# Altium footprint library Lattice Semiconductor Footprints.PcbLib: 129 footprints (part 9 of 10)
Each footprint in its own frame and in the unit in brackets; x right, y up, seen from the top. Pads: shape width x height; smd on the part's side, far side on the other; paste and mask are expansions set on the pad; w line width, h text height; cw(c..) or ccw(c..) is an arc to the next point about the centre after c.
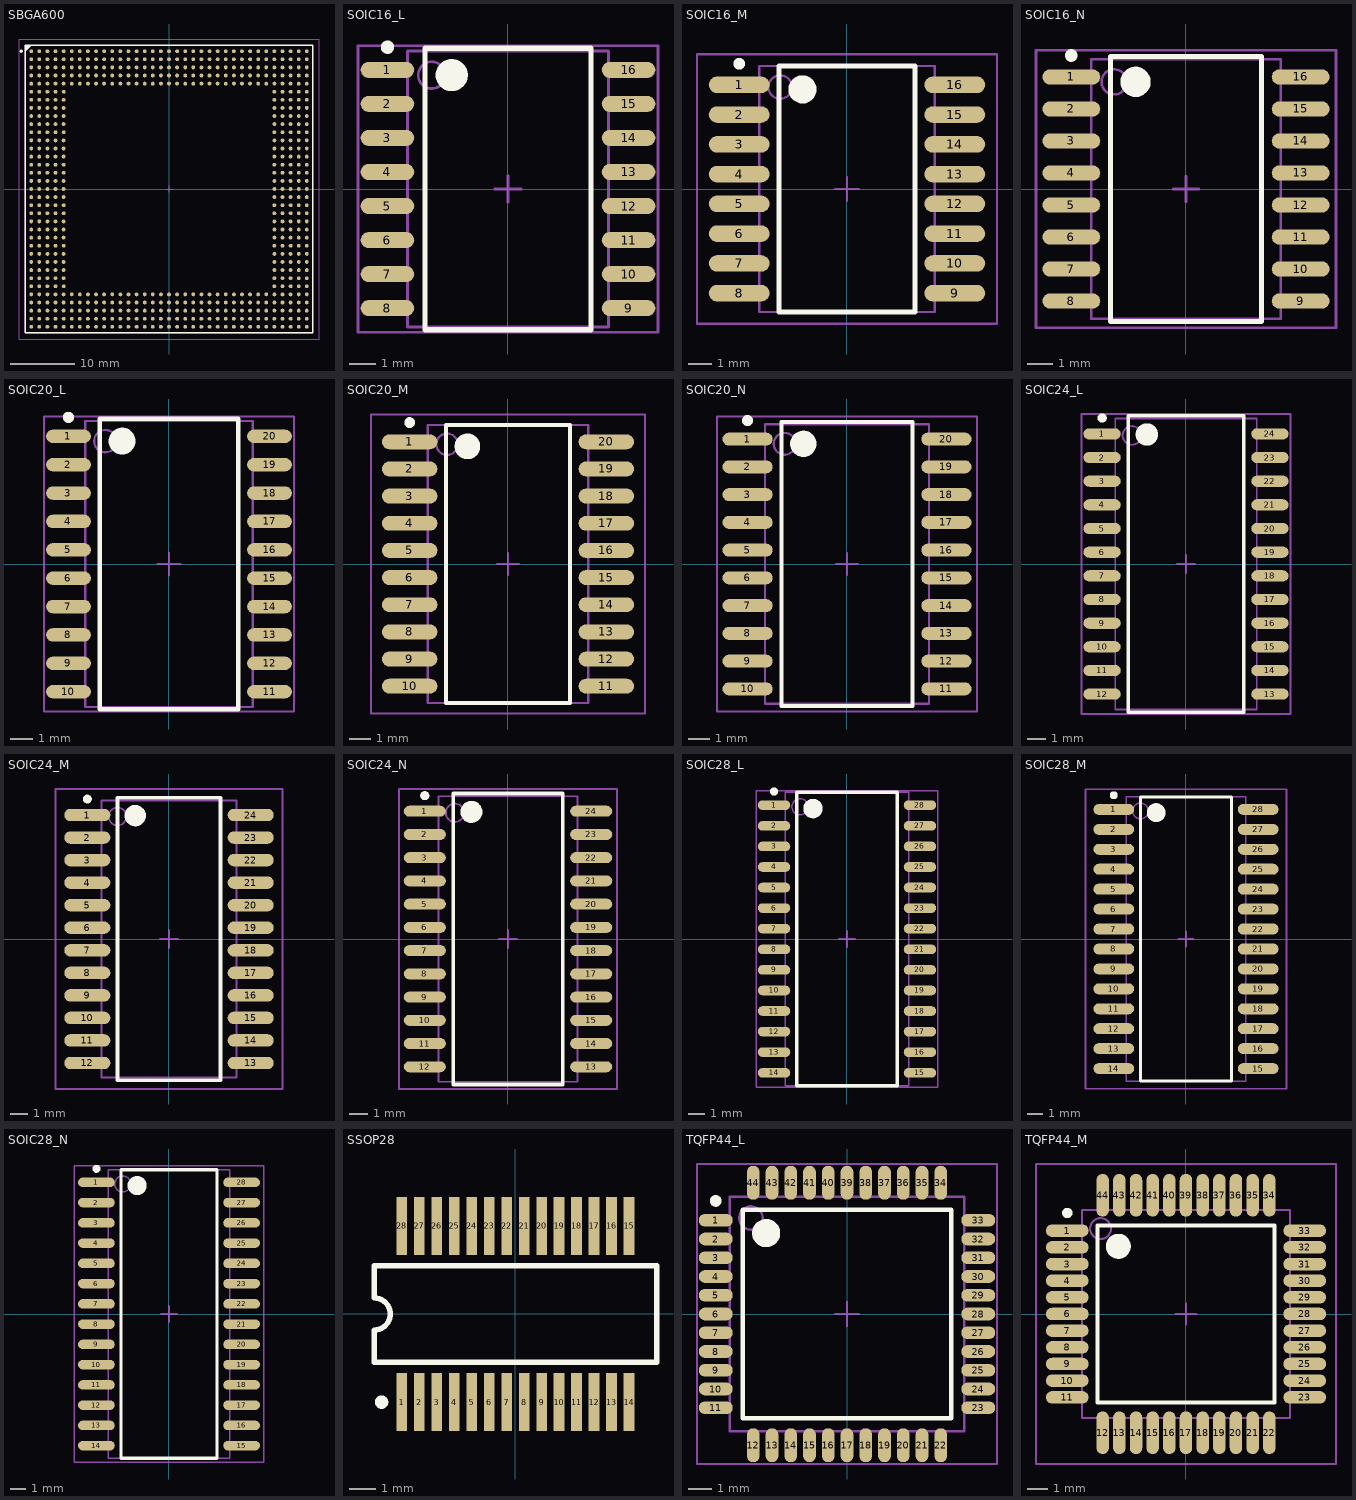
[diagram p8: the footprints below, top view; thin cyan lines are the x and y axes]

## SBGA600 [mm] "600-Ball Super Ball Grid Array (SBGA600)"
height 1.7
pads (600):
  round 0.6 smd: A1(-21.59,21.59) A2(-20.32,21.59) A3(-19.05,21.59) A4(-17.78,21.59) A5(-16.51,21.59) A6(-15.24,21.59) A7(-13.97,21.59) A8(-12.7,21.59) A9(-11.43,21.59) A10(-10.16,21.59) A11(-8.89,21.59) A12(-7.62,21.59) A13(-6.35,21.59) A14(-5.08,21.59) A15(-3.81,21.59) A16(-2.54,21.59) A17(-1.27,21.59) A18(0,21.59) A19(1.27,21.59) A20(2.54,21.59) A21(3.81,21.59) A22(5.08,21.59) A23(6.35,21.59) A24(7.62,21.59) A25(8.89,21.59) A26(10.16,21.59) A27(11.43,21.59) A28(12.7,21.59) A29(13.97,21.59) A30(15.24,21.59) A31(16.51,21.59) A32(17.78,21.59) A33(19.05,21.59) A34(20.32,21.59) A35(21.59,21.59) AA1(-21.59,-3.81) AA2(-20.32,-3.81) AA3(-19.05,-3.81) AA4(-17.78,-3.81) AA5(-16.51,-3.81) AA31(16.51,-3.81) AA32(17.78,-3.81) AA33(19.05,-3.81) AA34(20.32,-3.81) AA35(21.59,-3.81) AB1(-21.59,-5.08) AB2(-20.32,-5.08) AB3(-19.05,-5.08) AB4(-17.78,-5.08) AB5(-16.51,-5.08) AB31(16.51,-5.08) AB32(17.78,-5.08) AB33(19.05,-5.08) AB34(20.32,-5.08) AB35(21.59,-5.08) AC1(-21.59,-6.35) AC2(-20.32,-6.35) AC3(-19.05,-6.35) AC4(-17.78,-6.35) AC5(-16.51,-6.35) AC31(16.51,-6.35) AC32(17.78,-6.35) AC33(19.05,-6.35) AC34(20.32,-6.35) AC35(21.59,-6.35) AD1(-21.59,-7.62) AD2(-20.32,-7.62) AD3(-19.05,-7.62) AD4(-17.78,-7.62) AD5(-16.51,-7.62) AD31(16.51,-7.62) AD32(17.78,-7.62) AD33(19.05,-7.62) AD34(20.32,-7.62) AD35(21.59,-7.62) AE1(-21.59,-8.89) AE2(-20.32,-8.89) AE3(-19.05,-8.89) AE4(-17.78,-8.89) AE5(-16.51,-8.89) AE31(16.51,-8.89) AE32(17.78,-8.89) AE33(19.05,-8.89) AE34(20.32,-8.89) AE35(21.59,-8.89) AF1(-21.59,-10.16) AF2(-20.32,-10.16) AF3(-19.05,-10.16) AF4(-17.78,-10.16) AF5(-16.51,-10.16) AF31(16.51,-10.16) AF32(17.78,-10.16) AF33(19.05,-10.16) AF34(20.32,-10.16) AF35(21.59,-10.16) AG1(-21.59,-11.43) AG2(-20.32,-11.43) AG3(-19.05,-11.43) AG4(-17.78,-11.43) AG5(-16.51,-11.43) AG31(16.51,-11.43) AG32(17.78,-11.43) AG33(19.05,-11.43) AG34(20.32,-11.43) AG35(21.59,-11.43) AH1(-21.59,-12.7) AH2(-20.32,-12.7) AH3(-19.05,-12.7) AH4(-17.78,-12.7) AH5(-16.51,-12.7) AH31(16.51,-12.7) AH32(17.78,-12.7) AH33(19.05,-12.7) AH34(20.32,-12.7) AH35(21.59,-12.7) AJ1(-21.59,-13.97) AJ2(-20.32,-13.97) AJ3(-19.05,-13.97) AJ4(-17.78,-13.97) AJ5(-16.51,-13.97) AJ31(16.51,-13.97) AJ32(17.78,-13.97) AJ33(19.05,-13.97) AJ34(20.32,-13.97) AJ35(21.59,-13.97) AK1(-21.59,-15.24) AK2(-20.32,-15.24) AK3(-19.05,-15.24) AK4(-17.78,-15.24) AK5(-16.51,-15.24) AK31(16.51,-15.24) AK32(17.78,-15.24) AK33(19.05,-15.24) AK34(20.32,-15.24) AK35(21.59,-15.24) AL1(-21.59,-16.51) AL2(-20.32,-16.51) AL3(-19.05,-16.51) AL4(-17.78,-16.51) AL5(-16.51,-16.51) AL6(-15.24,-16.51) AL7(-13.97,-16.51) AL8(-12.7,-16.51) AL9(-11.43,-16.51) AL10(-10.16,-16.51) AL11(-8.89,-16.51) AL12(-7.62,-16.51) AL13(-6.35,-16.51) AL14(-5.08,-16.51) AL15(-3.81,-16.51) AL16(-2.54,-16.51) AL17(-1.27,-16.51) AL18(0,-16.51) AL19(1.27,-16.51) AL20(2.54,-16.51) AL21(3.81,-16.51) AL22(5.08,-16.51) AL23(6.35,-16.51) AL24(7.62,-16.51) AL25(8.89,-16.51) AL26(10.16,-16.51) AL27(11.43,-16.51) AL28(12.7,-16.51) AL29(13.97,-16.51) AL30(15.24,-16.51) AL31(16.51,-16.51) AL32(17.78,-16.51) AL33(19.05,-16.51) AL34(20.32,-16.51) AL35(21.59,-16.51) AM1(-21.59,-17.78) AM2(-20.32,-17.78) AM3(-19.05,-17.78) AM4(-17.78,-17.78) AM5(-16.51,-17.78) AM6(-15.24,-17.78) AM7(-13.97,-17.78) AM8(-12.7,-17.78) AM9(-11.43,-17.78) AM10(-10.16,-17.78) AM11(-8.89,-17.78) AM12(-7.62,-17.78) AM13(-6.35,-17.78) AM14(-5.08,-17.78) AM15(-3.81,-17.78) AM16(-2.54,-17.78) AM17(-1.27,-17.78) AM18(0,-17.78) AM19(1.27,-17.78) AM20(2.54,-17.78) AM21(3.81,-17.78) AM22(5.08,-17.78) AM23(6.35,-17.78) AM24(7.62,-17.78) AM25(8.89,-17.78) AM26(10.16,-17.78) AM27(11.43,-17.78) AM28(12.7,-17.78) AM29(13.97,-17.78) AM30(15.24,-17.78) AM31(16.51,-17.78) AM32(17.78,-17.78) AM33(19.05,-17.78) AM34(20.32,-17.78) AM35(21.59,-17.78) AN1(-21.59,-19.05) AN2(-20.32,-19.05) AN3(-19.05,-19.05) AN4(-17.78,-19.05) AN5(-16.51,-19.05) AN6(-15.24,-19.05) AN7(-13.97,-19.05) AN8(-12.7,-19.05) AN9(-11.43,-19.05) AN10(-10.16,-19.05) AN11(-8.89,-19.05) AN12(-7.62,-19.05) AN13(-6.35,-19.05) AN14(-5.08,-19.05) AN15(-3.81,-19.05) AN16(-2.54,-19.05) AN17(-1.27,-19.05) AN18(0,-19.05) AN19(1.27,-19.05) AN20(2.54,-19.05) AN21(3.81,-19.05) AN22(5.08,-19.05) AN23(6.35,-19.05) AN24(7.62,-19.05) AN25(8.89,-19.05) AN26(10.16,-19.05) AN27(11.43,-19.05) AN28(12.7,-19.05) AN29(13.97,-19.05) AN30(15.24,-19.05) AN31(16.51,-19.05) AN32(17.78,-19.05) AN33(19.05,-19.05) AN34(20.32,-19.05) AN35(21.59,-19.05) AP1(-21.59,-20.32) AP2(-20.32,-20.32) AP3(-19.05,-20.32) AP4(-17.78,-20.32) AP5(-16.51,-20.32) AP6(-15.24,-20.32) AP7(-13.97,-20.32) AP8(-12.7,-20.32) AP9(-11.43,-20.32) AP10(-10.16,-20.32) AP11(-8.89,-20.32) AP12(-7.62,-20.32) AP13(-6.35,-20.32) AP14(-5.08,-20.32) AP15(-3.81,-20.32) AP16(-2.54,-20.32) AP17(-1.27,-20.32) AP18(0,-20.32) AP19(1.27,-20.32) AP20(2.54,-20.32) AP21(3.81,-20.32) AP22(5.08,-20.32) AP23(6.35,-20.32) AP24(7.62,-20.32) AP25(8.89,-20.32) AP26(10.16,-20.32) AP27(11.43,-20.32) AP28(12.7,-20.32) AP29(13.97,-20.32) AP30(15.24,-20.32) AP31(16.51,-20.32) AP32(17.78,-20.32) AP33(19.05,-20.32) AP34(20.32,-20.32) AP35(21.59,-20.32) AR1(-21.59,-21.59) AR2(-20.32,-21.59) AR3(-19.05,-21.59) AR4(-17.78,-21.59) AR5(-16.51,-21.59) AR6(-15.24,-21.59) AR7(-13.97,-21.59) AR8(-12.7,-21.59) AR9(-11.43,-21.59) AR10(-10.16,-21.59) AR11(-8.89,-21.59) AR12(-7.62,-21.59) AR13(-6.35,-21.59) AR14(-5.08,-21.59) AR15(-3.81,-21.59) AR16(-2.54,-21.59) AR17(-1.27,-21.59) AR18(0,-21.59) AR19(1.27,-21.59) AR20(2.54,-21.59) AR21(3.81,-21.59) AR22(5.08,-21.59) AR23(6.35,-21.59) AR24(7.62,-21.59) AR25(8.89,-21.59) AR26(10.16,-21.59) AR27(11.43,-21.59) AR28(12.7,-21.59) AR29(13.97,-21.59) AR30(15.24,-21.59) AR31(16.51,-21.59) AR32(17.78,-21.59) AR33(19.05,-21.59) AR34(20.32,-21.59) AR35(21.59,-21.59) B1(-21.59,20.32) B2(-20.32,20.32) B3(-19.05,20.32) B4(-17.78,20.32) B5(-16.51,20.32) B6(-15.24,20.32) B7(-13.97,20.32) B8(-12.7,20.32) B9(-11.43,20.32) B10(-10.16,20.32) B11(-8.89,20.32) B12(-7.62,20.32) B13(-6.35,20.32) B14(-5.08,20.32) B15(-3.81,20.32) B16(-2.54,20.32) B17(-1.27,20.32) B18(0,20.32) B19(1.27,20.32) B20(2.54,20.32) B21(3.81,20.32) B22(5.08,20.32) B23(6.35,20.32) B24(7.62,20.32) B25(8.89,20.32) B26(10.16,20.32) B27(11.43,20.32) B28(12.7,20.32) B29(13.97,20.32) B30(15.24,20.32) B31(16.51,20.32) B32(17.78,20.32) B33(19.05,20.32) B34(20.32,20.32) B35(21.59,20.32) C1(-21.59,19.05) C2(-20.32,19.05) C3(-19.05,19.05) C4(-17.78,19.05) C5(-16.51,19.05) C6(-15.24,19.05) C7(-13.97,19.05) C8(-12.7,19.05) C9(-11.43,19.05) C10(-10.16,19.05) C11(-8.89,19.05) C12(-7.62,19.05) C13(-6.35,19.05) C14(-5.08,19.05) C15(-3.81,19.05) C16(-2.54,19.05) C17(-1.27,19.05) C18(0,19.05) C19(1.27,19.05) C20(2.54,19.05) C21(3.81,19.05) C22(5.08,19.05) C23(6.35,19.05) C24(7.62,19.05) C25(8.89,19.05) C26(10.16,19.05) C27(11.43,19.05) C28(12.7,19.05) C29(13.97,19.05) C30(15.24,19.05) C31(16.51,19.05) C32(17.78,19.05) C33(19.05,19.05) C34(20.32,19.05) C35(21.59,19.05) D1(-21.59,17.78) D2(-20.32,17.78) D3(-19.05,17.78) D4(-17.78,17.78) D5(-16.51,17.78) D6(-15.24,17.78) D7(-13.97,17.78) D8(-12.7,17.78) D9(-11.43,17.78) D10(-10.16,17.78) D11(-8.89,17.78) D12(-7.62,17.78) D13(-6.35,17.78) D14(-5.08,17.78) D15(-3.81,17.78) D16(-2.54,17.78) D17(-1.27,17.78) D18(0,17.78) D19(1.27,17.78) D20(2.54,17.78) D21(3.81,17.78) D22(5.08,17.78) D23(6.35,17.78) D24(7.62,17.78) D25(8.89,17.78) D26(10.16,17.78) D27(11.43,17.78) D28(12.7,17.78) D29(13.97,17.78) D30(15.24,17.78) D31(16.51,17.78) D32(17.78,17.78) D33(19.05,17.78) D34(20.32,17.78) D35(21.59,17.78) E1(-21.59,16.51) E2(-20.32,16.51) E3(-19.05,16.51) E4(-17.78,16.51) E5(-16.51,16.51) E6(-15.24,16.51) E7(-13.97,16.51) E8(-12.7,16.51) E9(-11.43,16.51) E10(-10.16,16.51) E11(-8.89,16.51) E12(-7.62,16.51) E13(-6.35,16.51) E14(-5.08,16.51) E15(-3.81,16.51) E16(-2.54,16.51) E17(-1.27,16.51) E18(0,16.51) E19(1.27,16.51) E20(2.54,16.51) E21(3.81,16.51) E22(5.08,16.51) E23(6.35,16.51) E24(7.62,16.51) E25(8.89,16.51) E26(10.16,16.51) E27(11.43,16.51) E28(12.7,16.51) E29(13.97,16.51) E30(15.24,16.51) E31(16.51,16.51) E32(17.78,16.51) E33(19.05,16.51) E34(20.32,16.51) E35(21.59,16.51) F1(-21.59,15.24) F2(-20.32,15.24) F3(-19.05,15.24) F4(-17.78,15.24) F5(-16.51,15.24) F31(16.51,15.24) F32(17.78,15.24) F33(19.05,15.24) F34(20.32,15.24) F35(21.59,15.24) G1(-21.59,13.97) G2(-20.32,13.97) G3(-19.05,13.97) G4(-17.78,13.97) G5(-16.51,13.97) G31(16.51,13.97) G32(17.78,13.97) G33(19.05,13.97) G34(20.32,13.97) G35(21.59,13.97) H1(-21.59,12.7) H2(-20.32,12.7) H3(-19.05,12.7) H4(-17.78,12.7) H5(-16.51,12.7) H31(16.51,12.7) H32(17.78,12.7) H33(19.05,12.7) H34(20.32,12.7) H35(21.59,12.7) J1(-21.59,11.43) J2(-20.32,11.43) J3(-19.05,11.43) J4(-17.78,11.43) J5(-16.51,11.43) J31(16.51,11.43) J32(17.78,11.43) J33(19.05,11.43) J34(20.32,11.43) J35(21.59,11.43) K1(-21.59,10.16) K2(-20.32,10.16) K3(-19.05,10.16) K4(-17.78,10.16) K5(-16.51,10.16) K31(16.51,10.16) K32(17.78,10.16) K33(19.05,10.16) K34(20.32,10.16) K35(21.59,10.16) L1(-21.59,8.89) L2(-20.32,8.89) L3(-19.05,8.89) L4(-17.78,8.89) L5(-16.51,8.89) L31(16.51,8.89) L32(17.78,8.89) L33(19.05,8.89) L34(20.32,8.89) L35(21.59,8.89) M1(-21.59,7.62) M2(-20.32,7.62) M3(-19.05,7.62) M4(-17.78,7.62) M5(-16.51,7.62) M31(16.51,7.62) M32(17.78,7.62) M33(19.05,7.62) M34(20.32,7.62) M35(21.59,7.62) N1(-21.59,6.35) N2(-20.32,6.35) N3(-19.05,6.35) N4(-17.78,6.35) N5(-16.51,6.35) N31(16.51,6.35) N32(17.78,6.35) N33(19.05,6.35) N34(20.32,6.35) N35(21.59,6.35) P1(-21.59,5.08) P2(-20.32,5.08) P3(-19.05,5.08) P4(-17.78,5.08) P5(-16.51,5.08) P31(16.51,5.08) P32(17.78,5.08) P33(19.05,5.08) P34(20.32,5.08) P35(21.59,5.08) R1(-21.59,3.81) R2(-20.32,3.81) R3(-19.05,3.81) R4(-17.78,3.81) R5(-16.51,3.81) R31(16.51,3.81) R32(17.78,3.81) R33(19.05,3.81) R34(20.32,3.81) R35(21.59,3.81) T1(-21.59,2.54) T2(-20.32,2.54) T3(-19.05,2.54) T4(-17.78,2.54) T5(-16.51,2.54) T31(16.51,2.54) T32(17.78,2.54) T33(19.05,2.54) T34(20.32,2.54) T35(21.59,2.54) U1(-21.59,1.27) U2(-20.32,1.27) U3(-19.05,1.27) U4(-17.78,1.27) U5(-16.51,1.27) U31(16.51,1.27) U32(17.78,1.27) U33(19.05,1.27) U34(20.32,1.27) U35(21.59,1.27) V1(-21.59,0) V2(-20.32,0) V3(-19.05,0) V4(-17.78,0) V5(-16.51,0) V31(16.51,0) V32(17.78,0) V33(19.05,0) V34(20.32,0) V35(21.59,0) W1(-21.59,-1.27) W2(-20.32,-1.27) W3(-19.05,-1.27) W4(-17.78,-1.27) W5(-16.51,-1.27) W31(16.51,-1.27) W32(17.78,-1.27) W33(19.05,-1.27) W34(20.32,-1.27) W35(21.59,-1.27) Y1(-21.59,-2.54) Y2(-20.32,-2.54) Y3(-19.05,-2.54) Y4(-17.78,-2.54) Y5(-16.51,-2.54) Y31(16.51,-2.54) Y32(17.78,-2.54) Y33(19.05,-2.54) Y34(20.32,-2.54) Y35(21.59,-2.54)
Top Overlay:
  circle w0.25: c-23.15,21.59 r0.125
  region: -21.67,22.5 -22.5,21.67 -22.5,22.5
  lines w0.2: -22.5,21.67 -21.67,22.5 ; -22.5,-22.5 -22.5,22.5 22.5,22.5 22.5,-22.5 -22.5,-22.5
Mechanical 13:
  lines w0.1: -22.5,-22.5 -22.5,22.5 22.5,22.5 22.5,-22.5 -22.5,-22.5
Mechanical 15:
  lines w0.1: -0.5,0 0.5,0 ; 0,-0.5 0,0.5 ; -23.5,-23.5 -23.5,23.5 23.5,23.5 23.5,-23.5 -23.5,-23.5
3D body: height 1.7, standoff 0, extent -22.5,-22.5 22.5,22.5

## SOIC16_L [mm] "16-Pin Small Outline Integrated Circuit 1.27 mm Pitch, IPC High Density"
height 2.65
pads (16):
  oval 2x0.6 smd: 1(-4.5,4.445) 2(-4.5,3.175) 3(-4.5,1.905) 4(-4.5,0.635) 5(-4.5,-0.635) 6(-4.5,-1.905) 7(-4.5,-3.175) 8(-4.5,-4.445) 9(4.5,-4.445) 10(4.5,-3.175) 11(4.5,-1.905) 12(4.5,-0.635) 13(4.5,0.635) 14(4.5,1.905) 15(4.5,3.175) 16(4.5,4.445)
Top Overlay:
  circle w0.25: c-4.5,5.295 r0.125
  circle w0.6: c-2.1,4.25 r0.3
  lines w0.2: -3.1,-5.25 -3.1,5.25 3.1,5.25 3.1,-5.25 -3.1,-5.25
Mechanical 13:
  circle w0.1: c-2.85,4.25 r0.5
  lines w0.1: -3.75,-5.15 -3.75,5.15 3.75,5.15 3.75,-5.15 -3.75,-5.15
Mechanical 15:
  lines w0.1: -0.5,0 0.5,0 ; 0,-0.5 0,0.5 ; -5.6,-5.35 -5.6,5.35 5.6,5.35 5.6,-5.35 -5.6,-5.35
3D body: height 2.65, standoff 0, extent -3.75,-5.15 3.75,5.15

## SOIC16_M [mm] "16-Pin Small Outline Integrated Circuit 1.27 mm Pitch, IPC Low Density"
height 2.65
pads (16):
  oval 2.6x0.7 smd: 1(-4.6,4.445) 2(-4.6,3.175) 3(-4.6,1.905) 4(-4.6,0.635) 5(-4.6,-0.635) 6(-4.6,-1.905) 7(-4.6,-3.175) 8(-4.6,-4.445) 9(4.6,-4.445) 10(4.6,-3.175) 11(4.6,-1.905) 12(4.6,-0.635) 13(4.6,0.635) 14(4.6,1.905) 15(4.6,3.175) 16(4.6,4.445)
Top Overlay:
  circle w0.25: c-4.6,5.345 r0.125
  circle w0.6: c-1.9,4.25 r0.3
  lines w0.2: -2.9,-5.25 -2.9,5.25 2.9,5.25 2.9,-5.25 -2.9,-5.25
Mechanical 13:
  circle w0.1: c-2.85,4.35 r0.5
  lines w0.1: -3.75,-5.25 -3.75,5.25 3.75,5.25 3.75,-5.25 -3.75,-5.25
Mechanical 15:
  lines w0.1: -0.5,0 0.5,0 ; 0,-0.5 0,0.5 ; -6.4,-5.75 -6.4,5.75 6.4,5.75 6.4,-5.75 -6.4,-5.75
3D body: height 2.65, standoff 0, extent -3.75,-5.25 3.75,5.25

## SOIC16_N [mm] "16-Pin Small Outline Integrated Circuit 1.27 mm Pitch, IPC Medium Density"
height 2.65
pads (16):
  oval 2.3x0.6 smd: 1(-4.55,4.445) 2(-4.55,3.175) 3(-4.55,1.905) 4(-4.55,0.635) 5(-4.55,-0.635) 6(-4.55,-1.905) 7(-4.55,-3.175) 8(-4.55,-4.445) 9(4.55,-4.445) 10(4.55,-3.175) 11(4.55,-1.905) 12(4.55,-0.635) 13(4.55,0.635) 14(4.55,1.905) 15(4.55,3.175) 16(4.55,4.445)
Top Overlay:
  circle w0.25: c-4.55,5.295 r0.125
  circle w0.6: c-2,4.25 r0.3
  lines w0.2: -3,-5.25 -3,5.25 3,5.25 3,-5.25 -3,-5.25
Mechanical 13:
  circle w0.1: c-2.85,4.25 r0.5
  lines w0.1: -3.75,-5.15 -3.75,5.15 3.75,5.15 3.75,-5.15 -3.75,-5.15
Mechanical 15:
  lines w0.1: -0.5,0 0.5,0 ; 0,-0.5 0,0.5 ; -5.95,-5.5 -5.95,5.5 5.95,5.5 5.95,-5.5 -5.95,-5.5
3D body: height 2.65, standoff 0, extent -3.75,-5.15 3.75,5.15

## SOIC20_L [mm] "20-Pin Small Outline Integrated Circuit 1.27 mm Pitch, IPC High Density"
height 2.65
pads (20):
  oval 2x0.6 smd: 1(-4.5,5.715) 2(-4.5,4.445) 3(-4.5,3.175) 4(-4.5,1.905) 5(-4.5,0.635) 6(-4.5,-0.635) 7(-4.5,-1.905) 8(-4.5,-3.175) 9(-4.5,-4.445) 10(-4.5,-5.715) 11(4.5,-5.715) 12(4.5,-4.445) 13(4.5,-3.175) 14(4.5,-1.905) 15(4.5,-0.635) 16(4.5,0.635) 17(4.5,1.905) 18(4.5,3.175) 19(4.5,4.445) 20(4.5,5.715)
Top Overlay:
  circle w0.25: c-4.5,6.565 r0.125
  circle w0.6: c-2.1,5.5 r0.3
  lines w0.2: -3.1,-6.5 -3.1,6.5 3.1,6.5 3.1,-6.5 -3.1,-6.5
Mechanical 13:
  circle w0.1: c-2.85,5.5 r0.5
  lines w0.1: -3.75,-6.4 -3.75,6.4 3.75,6.4 3.75,-6.4 -3.75,-6.4
Mechanical 15:
  lines w0.1: -0.5,0 0.5,0 ; 0,-0.5 0,0.5 ; -5.6,-6.6 -5.6,6.6 5.6,6.6 5.6,-6.6 -5.6,-6.6
3D body: height 2.65, standoff 0, extent -3.75,-6.4 3.75,6.4

## SOIC20_M [mm] "20-Pin Small Outline Integrated Circuit 1.27 mm Pitch, IPC Low Density"
height 2.65
pads (20):
  oval 2.6x0.7 smd: 1(-4.6,5.715) 2(-4.6,4.445) 3(-4.6,3.175) 4(-4.6,1.905) 5(-4.6,0.635) 6(-4.6,-0.635) 7(-4.6,-1.905) 8(-4.6,-3.175) 9(-4.6,-4.445) 10(-4.6,-5.715) 11(4.6,-5.715) 12(4.6,-4.445) 13(4.6,-3.175) 14(4.6,-1.905) 15(4.6,-0.635) 16(4.6,0.635) 17(4.6,1.905) 18(4.6,3.175) 19(4.6,4.445) 20(4.6,5.715)
Top Overlay:
  circle w0.25: c-4.6,6.615 r0.125
  circle w0.6: c-1.9,5.5 r0.3
  lines w0.2: -2.9,-6.5 -2.9,6.5 2.9,6.5 2.9,-6.5 -2.9,-6.5
Mechanical 13:
  circle w0.1: c-2.85,5.6 r0.5
  lines w0.1: -3.75,-6.5 -3.75,6.5 3.75,6.5 3.75,-6.5 -3.75,-6.5
Mechanical 15:
  lines w0.1: -0.5,0 0.5,0 ; 0,-0.5 0,0.5 ; -6.4,-7 -6.4,7 6.4,7 6.4,-7 -6.4,-7
3D body: height 2.65, standoff 0, extent -3.75,-6.5 3.75,6.5

## SOIC20_N [mm] "20-Pin Small Outline Integrated Circuit 1.27 mm Pitch, IPC Medium Density"
height 2.65
pads (20):
  oval 2.3x0.6 smd: 1(-4.55,5.715) 2(-4.55,4.445) 3(-4.55,3.175) 4(-4.55,1.905) 5(-4.55,0.635) 6(-4.55,-0.635) 7(-4.55,-1.905) 8(-4.55,-3.175) 9(-4.55,-4.445) 10(-4.55,-5.715) 11(4.55,-5.715) 12(4.55,-4.445) 13(4.55,-3.175) 14(4.55,-1.905) 15(4.55,-0.635) 16(4.55,0.635) 17(4.55,1.905) 18(4.55,3.175) 19(4.55,4.445) 20(4.55,5.715)
Top Overlay:
  circle w0.25: c-4.55,6.565 r0.125
  circle w0.6: c-2,5.5 r0.3
  lines w0.2: -3,-6.5 -3,6.5 3,6.5 3,-6.5 -3,-6.5
Mechanical 13:
  circle w0.1: c-2.85,5.5 r0.5
  lines w0.1: -3.75,-6.4 -3.75,6.4 3.75,6.4 3.75,-6.4 -3.75,-6.4
Mechanical 15:
  lines w0.1: -0.5,0 0.5,0 ; 0,-0.5 0,0.5 ; -5.95,-6.75 -5.95,6.75 5.95,6.75 5.95,-6.75 -5.95,-6.75
3D body: height 2.65, standoff 0, extent -3.75,-6.4 3.75,6.4

## SOIC24_L [mm] "24-Pin Small Outline Integrated Circuit 1.27 mm Pitch, IPC High Density"
height 2.65
pads (24):
  oval 2x0.6 smd: 1(-4.5,6.985) 2(-4.5,5.715) 3(-4.5,4.445) 4(-4.5,3.175) 5(-4.5,1.905) 6(-4.5,0.635) 7(-4.5,-0.635) 8(-4.5,-1.905) 9(-4.5,-3.175) 10(-4.5,-4.445) 11(-4.5,-5.715) 12(-4.5,-6.985) 13(4.5,-6.985) 14(4.5,-5.715) 15(4.5,-4.445) 16(4.5,-3.175) 17(4.5,-1.905) 18(4.5,-0.635) 19(4.5,0.635) 20(4.5,1.905) 21(4.5,3.175) 22(4.5,4.445) 23(4.5,5.715) 24(4.5,6.985)
Top Overlay:
  circle w0.25: c-4.5,7.835 r0.125
  circle w0.6: c-2.1,6.95 r0.3
  lines w0.2: -3.1,-7.95 -3.1,7.95 3.1,7.95 3.1,-7.95 -3.1,-7.95
Mechanical 13:
  circle w0.1: c-2.9,6.9 r0.5
  lines w0.1: -3.8,-7.8 -3.8,7.8 3.8,7.8 3.8,-7.8 -3.8,-7.8
Mechanical 15:
  lines w0.1: -0.5,0 0.5,0 ; 0,-0.5 0,0.5 ; -5.6,-8.05 -5.6,8.05 5.6,8.05 5.6,-8.05 -5.6,-8.05
3D body: height 2.65, standoff 0, extent -3.8,-7.8 3.8,7.8

## SOIC24_M [mm] "24-Pin Small Outline Integrated Circuit 1.27 mm Pitch, IPC Low Density"
height 2.65
pads (24):
  oval 2.6x0.7 smd: 1(-4.6,6.985) 2(-4.6,5.715) 3(-4.6,4.445) 4(-4.6,3.175) 5(-4.6,1.905) 6(-4.6,0.635) 7(-4.6,-0.635) 8(-4.6,-1.905) 9(-4.6,-3.175) 10(-4.6,-4.445) 11(-4.6,-5.715) 12(-4.6,-6.985) 13(4.6,-6.985) 14(4.6,-5.715) 15(4.6,-4.445) 16(4.6,-3.175) 17(4.6,-1.905) 18(4.6,-0.635) 19(4.6,0.635) 20(4.6,1.905) 21(4.6,3.175) 22(4.6,4.445) 23(4.6,5.715) 24(4.6,6.985)
Top Overlay:
  circle w0.25: c-4.6,7.885 r0.125
  circle w0.6: c-1.9,6.95 r0.3
  lines w0.2: -2.9,-7.95 -2.9,7.95 2.9,7.95 2.9,-7.95 -2.9,-7.95
Mechanical 13:
  circle w0.1: c-2.9,6.9 r0.5
  lines w0.1: -3.8,-7.8 -3.8,7.8 3.8,7.8 3.8,-7.8 -3.8,-7.8
Mechanical 15:
  lines w0.1: -0.5,0 0.5,0 ; 0,-0.5 0,0.5 ; -6.4,-8.45 -6.4,8.45 6.4,8.45 6.4,-8.45 -6.4,-8.45
3D body: height 2.65, standoff 0, extent -3.8,-7.8 3.8,7.8

## SOIC24_N [mm] "24-Pin Small Outline Integrated Circuit 1.27 mm Pitch, IPC Medium Density"
height 2.65
pads (24):
  oval 2.3x0.6 smd: 1(-4.55,6.985) 2(-4.55,5.715) 3(-4.55,4.445) 4(-4.55,3.175) 5(-4.55,1.905) 6(-4.55,0.635) 7(-4.55,-0.635) 8(-4.55,-1.905) 9(-4.55,-3.175) 10(-4.55,-4.445) 11(-4.55,-5.715) 12(-4.55,-6.985) 13(4.55,-6.985) 14(4.55,-5.715) 15(4.55,-4.445) 16(4.55,-3.175) 17(4.55,-1.905) 18(4.55,-0.635) 19(4.55,0.635) 20(4.55,1.905) 21(4.55,3.175) 22(4.55,4.445) 23(4.55,5.715) 24(4.55,6.985)
Top Overlay:
  circle w0.25: c-4.55,7.835 r0.125
  circle w0.6: c-2,6.95 r0.3
  lines w0.2: -3,-7.95 -3,7.95 3,7.95 3,-7.95 -3,-7.95
Mechanical 13:
  circle w0.1: c-2.9,6.9 r0.5
  lines w0.1: -3.8,-7.8 -3.8,7.8 3.8,7.8 3.8,-7.8 -3.8,-7.8
Mechanical 15:
  lines w0.1: -0.5,0 0.5,0 ; 0,-0.5 0,0.5 ; -5.95,-8.2 -5.95,8.2 5.95,8.2 5.95,-8.2 -5.95,-8.2
3D body: height 2.65, standoff 0, extent -3.8,-7.8 3.8,7.8

## SOIC28_L [mm] "28-Pin Small Outline Integrated Circuit 1.27 mm Pitch, IPC High Density"
height 2.65
pads (28):
  oval 2x0.6 smd: 1(-4.5,8.255) 2(-4.5,6.985) 3(-4.5,5.715) 4(-4.5,4.445) 5(-4.5,3.175) 6(-4.5,1.905) 7(-4.5,0.635) 8(-4.5,-0.635) 9(-4.5,-1.905) 10(-4.5,-3.175) 11(-4.5,-4.445) 12(-4.5,-5.715) 13(-4.5,-6.985) 14(-4.5,-8.255) 15(4.5,-8.255) 16(4.5,-6.985) 17(4.5,-5.715) 18(4.5,-4.445) 19(4.5,-3.175) 20(4.5,-1.905) 21(4.5,-0.635) 22(4.5,0.635) 23(4.5,1.905) 24(4.5,3.175) 25(4.5,4.445) 26(4.5,5.715) 27(4.5,6.985) 28(4.5,8.255)
Top Overlay:
  circle w0.25: c-4.5,9.105 r0.125
  circle w0.6: c-2.1,8.05 r0.3
  lines w0.2: -3.1,-9.05 -3.1,9.05 3.1,9.05 3.1,-9.05 -3.1,-9.05
Mechanical 13:
  circle w0.1: c-2.9,8.155 r0.5
  lines w0.1: -3.8,-9.055 -3.8,9.055 3.8,9.055 3.8,-9.055 -3.8,-9.055
Mechanical 15:
  lines w0.1: -0.5,0 0.5,0 ; 0,-0.5 0,0.5 ; -5.6,-9.15 -5.6,9.15 5.6,9.15 5.6,-9.15 -5.6,-9.15
3D body: height 2.65, standoff 0, extent -3.8,-9.055 3.8,9.055

## SOIC28_M [mm] "28-Pin Small Outline Integrated Circuit 1.27 mm Pitch, IPC Low Density"
height 2.65
pads (28):
  oval 2.6x0.7 smd: 1(-4.6,8.255) 2(-4.6,6.985) 3(-4.6,5.715) 4(-4.6,4.445) 5(-4.6,3.175) 6(-4.6,1.905) 7(-4.6,0.635) 8(-4.6,-0.635) 9(-4.6,-1.905) 10(-4.6,-3.175) 11(-4.6,-4.445) 12(-4.6,-5.715) 13(-4.6,-6.985) 14(-4.6,-8.255) 15(4.6,-8.255) 16(4.6,-6.985) 17(4.6,-5.715) 18(4.6,-4.445) 19(4.6,-3.175) 20(4.6,-1.905) 21(4.6,-0.635) 22(4.6,0.635) 23(4.6,1.905) 24(4.6,3.175) 25(4.6,4.445) 26(4.6,5.715) 27(4.6,6.985) 28(4.6,8.255)
Top Overlay:
  circle w0.25: c-4.6,9.155 r0.125
  circle w0.6: c-1.9,8.05 r0.3
  lines w0.2: -2.9,-9.05 -2.9,9.05 2.9,9.05 2.9,-9.05 -2.9,-9.05
Mechanical 13:
  circle w0.1: c-2.9,8.155 r0.5
  lines w0.1: -3.8,-9.055 -3.8,9.055 3.8,9.055 3.8,-9.055 -3.8,-9.055
Mechanical 15:
  lines w0.1: -0.5,0 0.5,0 ; 0,-0.5 0,0.5 ; -6.4,-9.55 -6.4,9.55 6.4,9.55 6.4,-9.55 -6.4,-9.55
3D body: height 2.65, standoff 0, extent -3.8,-9.055 3.8,9.055

## SOIC28_N [mm] "28-Pin Small Outline Integrated Circuit 1.27 mm Pitch, IPC Medium Density"
height 2.65
pads (28):
  oval 2.3x0.6 smd: 1(-4.55,8.255) 2(-4.55,6.985) 3(-4.55,5.715) 4(-4.55,4.445) 5(-4.55,3.175) 6(-4.55,1.905) 7(-4.55,0.635) 8(-4.55,-0.635) 9(-4.55,-1.905) 10(-4.55,-3.175) 11(-4.55,-4.445) 12(-4.55,-5.715) 13(-4.55,-6.985) 14(-4.55,-8.255) 15(4.55,-8.255) 16(4.55,-6.985) 17(4.55,-5.715) 18(4.55,-4.445) 19(4.55,-3.175) 20(4.55,-1.905) 21(4.55,-0.635) 22(4.55,0.635) 23(4.55,1.905) 24(4.55,3.175) 25(4.55,4.445) 26(4.55,5.715) 27(4.55,6.985) 28(4.55,8.255)
Top Overlay:
  circle w0.25: c-4.55,9.105 r0.125
  circle w0.6: c-2,8.05 r0.3
  lines w0.2: -3,-9.05 -3,9.05 3,9.05 3,-9.05 -3,-9.05
Mechanical 13:
  circle w0.1: c-2.9,8.155 r0.5
  lines w0.1: -3.8,-9.055 -3.8,9.055 3.8,9.055 3.8,-9.055 -3.8,-9.055
Mechanical 15:
  lines w0.1: -0.5,0 0.5,0 ; 0,-0.5 0,0.5 ; -5.95,-9.3 -5.95,9.3 5.95,9.3 5.95,-9.3 -5.95,-9.3
3D body: height 2.65, standoff 0, extent -3.8,-9.055 3.8,9.055

## SSOP28 [mm] "SSOP; 28 Leads; Body Width 5.3 mm; Pitch 0.65 mm"
height 2
pads (28):
  rect 0.4x2.15 smd: 1(-4.225,-3.275) 2(-3.575,-3.275) 3(-2.925,-3.275) 4(-2.275,-3.275) 5(-1.625,-3.275) 6(-0.975,-3.275) 7(-0.325,-3.275) 8(0.325,-3.275) 9(0.975,-3.275) 10(1.625,-3.275) 11(2.275,-3.275) 12(2.925,-3.275) 13(3.575,-3.275) 14(4.225,-3.275) 15(4.225,3.275) 16(3.575,3.275) 17(2.925,3.275) 18(2.275,3.275) 19(1.625,3.275) 20(0.975,3.275) 21(0.325,3.275) 22(-0.325,3.275) 23(-0.975,3.275) 24(-1.625,3.275) 25(-2.275,3.275) 26(-2.925,3.275) 27(-3.575,3.275) 28(-4.225,3.275)
Top Overlay:
  circle w0.25: c-4.975,-3.275 r0.125
  lines w0.2: -5.25,-1.8 5.25,-1.8 5.25,1.8 -5.25,1.8 -5.25,0.6 cw(c-5.25,0) -5.25,-0.6 -5.25,-1.8

## TQFP44_L [mm] "44-Pin Thin Quad Flat Pack 0.8 mm Pitch, IPC High Density"
height 1.6
pads (44):
  oval 1.45x0.55 smd: 1(-5.6,4) 2(-5.6,3.2) 3(-5.6,2.4) 4(-5.6,1.6) 5(-5.6,0.8) 6(-5.6,0) 7(-5.6,-0.8) 8(-5.6,-1.6) 9(-5.6,-2.4) 10(-5.6,-3.2) 11(-5.6,-4) 23(5.6,-4) 24(5.6,-3.2) 25(5.6,-2.4) 26(5.6,-1.6) 27(5.6,-0.8) 28(5.6,0) 29(5.6,0.8) 30(5.6,1.6) 31(5.6,2.4) 32(5.6,3.2) 33(5.6,4)
  oval 0.55x1.45 smd: 12(-4,-5.6) 13(-3.2,-5.6) 14(-2.4,-5.6) 15(-1.6,-5.6) 16(-0.8,-5.6) 17(0,-5.6) 18(0.8,-5.6) 19(1.6,-5.6) 20(2.4,-5.6) 21(3.2,-5.6) 22(4,-5.6) 34(4,5.6) 35(3.2,5.6) 36(2.4,5.6) 37(1.6,5.6) 38(0.8,5.6) 39(0,5.6) 40(-0.8,5.6) 41(-1.6,5.6) 42(-2.4,5.6) 43(-3.2,5.6) 44(-4,5.6)
Top Overlay:
  circle w0.6: c-3.45,3.45 r0.3
  circle w0.25: c-5.6,4.825 r0.125
  lines w0.2: -4.45,-4.45 4.45,-4.45 4.45,4.45 -4.45,4.45 -4.45,-4.45
Mechanical 13:
  circle w0.1: c-4.1,4.1 r0.5
  lines w0.1: -5,-5 5,-5 5,5 -5,5 -5,-5
Mechanical 15:
  lines w0.1: -0.5,0 0.5,0 ; 0,-0.5 0,0.5 ; -6.4,-6.4 6.4,-6.4 6.4,6.4 -6.4,6.4 -6.4,-6.4
3D body: height 1.6, standoff 0, extent -5,-5 5,5

## TQFP44_M [mm] "44-Pin Thin Quad Flat Pack 0.8 mm Pitch, IPC Low Density"
height 1.6
pads (44):
  oval 2.05x0.6 smd: 1(-5.7,4) 2(-5.7,3.2) 3(-5.7,2.4) 4(-5.7,1.6) 5(-5.7,0.8) 6(-5.7,0) 7(-5.7,-0.8) 8(-5.7,-1.6) 9(-5.7,-2.4) 10(-5.7,-3.2) 11(-5.7,-4) 23(5.7,-4) 24(5.7,-3.2) 25(5.7,-2.4) 26(5.7,-1.6) 27(5.7,-0.8) 28(5.7,0) 29(5.7,0.8) 30(5.7,1.6) 31(5.7,2.4) 32(5.7,3.2) 33(5.7,4)
  oval 0.6x2.05 smd: 12(-4,-5.7) 13(-3.2,-5.7) 14(-2.4,-5.7) 15(-1.6,-5.7) 16(-0.8,-5.7) 17(0,-5.7) 18(0.8,-5.7) 19(1.6,-5.7) 20(2.4,-5.7) 21(3.2,-5.7) 22(4,-5.7) 34(4,5.7) 35(3.2,5.7) 36(2.4,5.7) 37(1.6,5.7) 38(0.8,5.7) 39(0,5.7) 40(-0.8,5.7) 41(-1.6,5.7) 42(-2.4,5.7) 43(-3.2,5.7) 44(-4,5.7)
Top Overlay:
  circle w0.6: c-3.25,3.25 r0.3
  circle w0.25: c-5.7,4.85 r0.125
  lines w0.2: -4.25,-4.25 4.25,-4.25 4.25,4.25 -4.25,4.25 -4.25,-4.25
Mechanical 13:
  circle w0.1: c-4.1,4.1 r0.5
  lines w0.1: -5,-5 5,-5 5,5 -5,5 -5,-5
Mechanical 15:
  lines w0.1: -0.5,0 0.5,0 ; 0,-0.5 0,0.5 ; -7.2,-7.2 7.2,-7.2 7.2,7.2 -7.2,7.2 -7.2,-7.2
3D body: height 1.6, standoff 0, extent -5,-5 5,5